# Altium schematic symbol library WiirdFlex.SchLib: 25 symbols
Pins are listed as number, name and electrical type; pins without a type are passive.

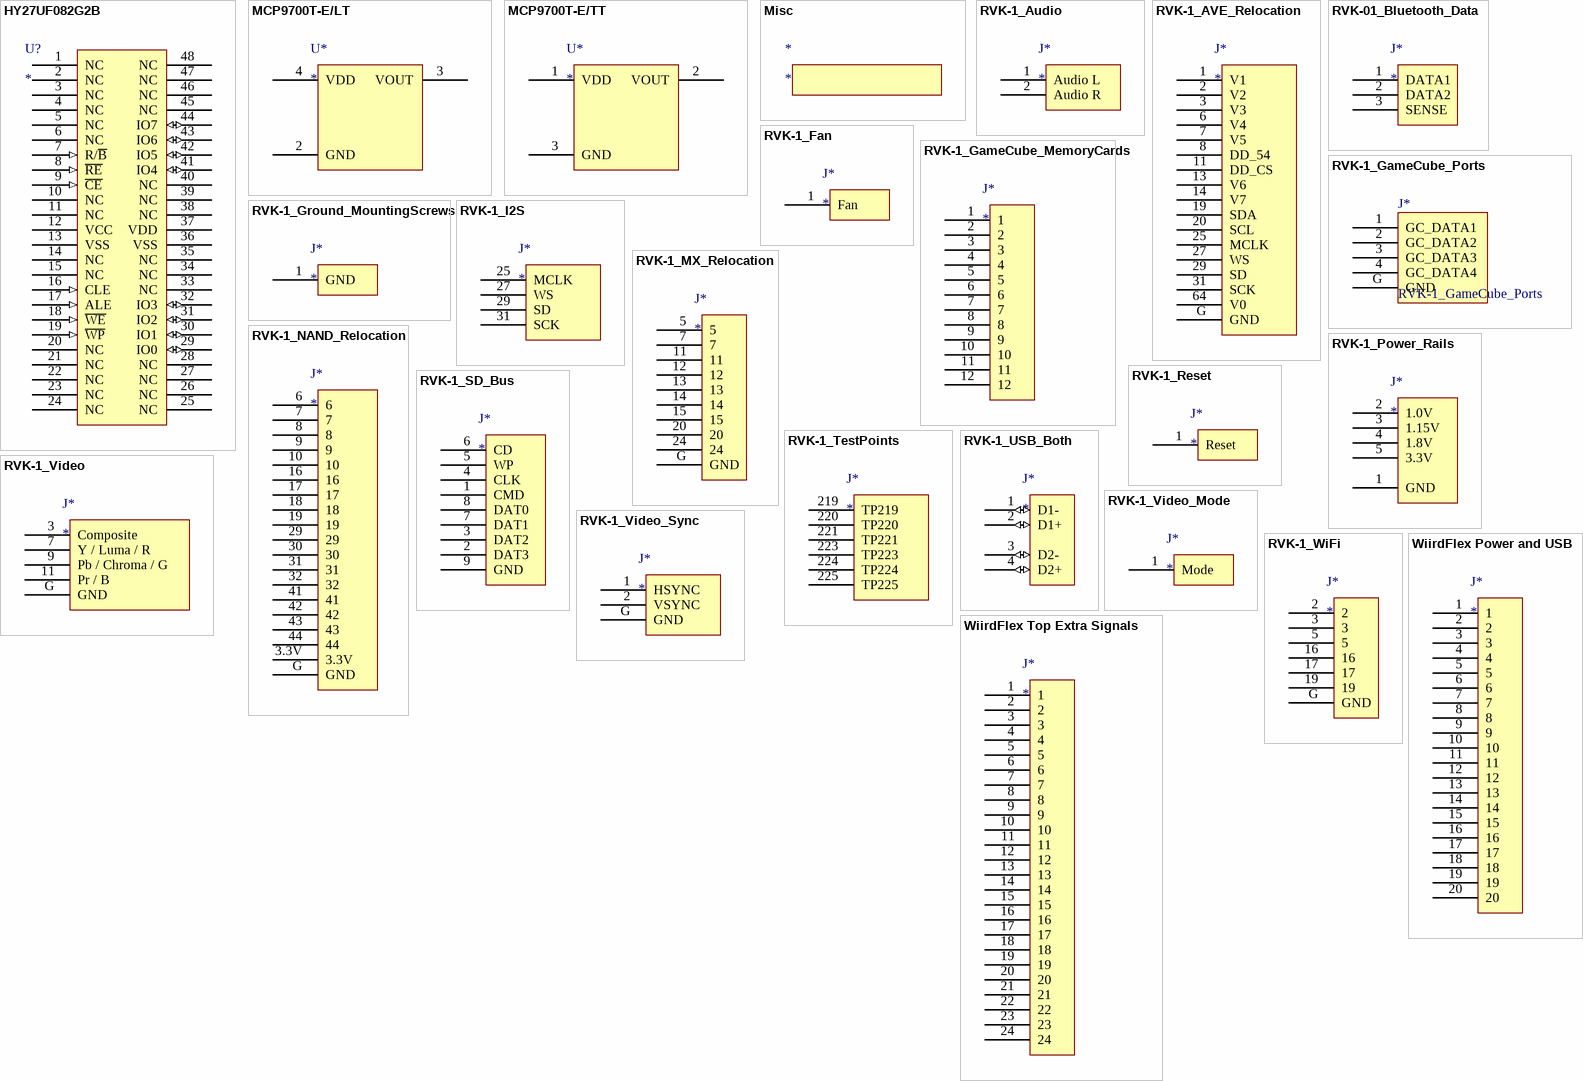
[diagram p0: symbols HY27UF082G2B to WiirdFlex Top Extra Signals]

## HY27UF082G2B
designator U?
NAND flash chip used on WII
footprint TSSOP50P2000X120-48N (TSSOP, 48-Leads, Body 12.02x18.40mm, Pitch 0.50mm, IPC Medium Density)
pins: 1 NC, 2 NC, 3 NC, 4 NC, 5 NC, 6 NC, 7 R/~{B} (in), 8 ~{RE} (in), 9 ~{CE} (in), 10 NC, 11 NC, 12 VCC (power), 13 VSS (power), 14 NC, 15 NC, 16 CLE (in), 17 ALE (in), 18 ~{WE} (in), 19 ~{WP} (in), 20 NC, 21 NC, 22 NC, 23 NC, 24 NC, 25 NC, 26 NC, 27 NC, 28 NC, 29 IO0 (io), 30 IO1 (io), 31 IO2 (io), 32 IO3 (io), 33 NC, 34 NC, 35 NC, 36 VSS (power), 37 VDD (power), 38 NC, 39 NC, 40 NC, 41 IO4 (io), 42 IO5 (io), 43 IO6 (io), 44 IO7 (io), 45 NC, 46 NC, 47 NC, 48 NC

## MCP9700T-E/LT
designator U*
Low-Power Linear Active Thermistor IC, SC70-5 package
footprint SOT65P210X110-6N (SOT23, 6-Leads, Body 2.03x2.10mm, Pitch 0.65mm, IPC Medium Density)
pins: 2 GND, 3 VOUT, 4 VDD

## MCP9700T-E/TT
designator U*
Low-Power Linear Active Thermistor IC, SOT-23-3 package
footprint SOT95P237X112-3N (SOT23, 3-Leads, Body 2.86x2.37mm, Pitch 0.95mm, IPC Medium Density)
pins: 1 VDD, 2 VOUT, 3 GND

## Misc
designator *
placeholder for footprints without pads - keepouts, trim outlines, etc; ClassName: Keepout

## RVK-1_Audio
designator J*
footprint RVK-1_AVE_Audio_Out
footprint RVK-1_Audio_Preamp_Pads
pins: 1 Audio L, 2 Audio R

## RVK-1_AVE_Relocation
designator J*
footprint RVK-1_AVE_Vias
footprint RVK-1_AVE_Vias - alignment
pins: 1 V1, 2 V2, 3 V3, 6 V4, 7 V5, 8 DD_54, 11 DD_CS, 13 V6, 14 V7, 19 SDA, 20 SCL, 25 MCLK, 27 WS, 29 SD, 31 SCK, 64 V0, G GND

## RVK-01_Bluetooth_Data
designator J*
footprint RVK-1_BT_Data
pins: 1 DATA1, 2 DATA2, 3 SENSE

## RVK-1_Fan
designator J*
footprint RVK-1_Fan_PWM (Via controlling fan from GPU.  Don't know if it's actually PWM or not, just guessing.)
pins: 1 Fan

## RVK-1_GameCube_MemoryCards
designator J*
footprint RVK-1_MemCard_TestPoints (Don't need these signals but they may be useful for mechanical attachment points)
pins: 1, 2, 3, 4, 5, 6, 7, 8, 9, 10, 11, 12

## RVK-1_GameCube_Ports
designator J*
footprint RVK-1_GC_Controller_RPads (Footprint for direct attachment to Game Cube controller signals on bottom side, via pull up resistor array pads)
footprint RVK-1_GC_Controller_Vias
footprint RVK-1_GC_Controller_RPads - alignment
footprint RVK-1_GC_Controller_Vias - alignment
pins: 1 GC_DATA1, 2 GC_DATA2, 3 GC_DATA3, 4 GC_DATA4, G GND

## RVK-1_Ground_MountingScrews
designator J*
footprint RVK-1_GND_Screws
pins: 1 GND

## RVK-1_I2S
designator J*
footprint RVK-1_AVE_I2S
pins: 25 MCLK, 27 WS, 29 SD, 31 SCK

## RVK-1_MX_Relocation
designator J*
footprint RVK-1_MX (Vias where the MX chip attaches to CPU and/or GPU on the bottom of a 4-layer Wii motherboard)
footprint RVK-1_MX - alignment (Vias where the MX chip attaches to CPU and/or GPU on the bottom of a 4-layer Wii motherboard)
pins: 5, 7, 11, 12, 13, 14, 15, 20, 24, G GND

## RVK-1_NAND_Relocation
designator J*
footprint RVK-1_NAND_Vias
footprint RVK-1_NAND_Vias - alignment
pins: 3.3V, 6, 7, 8, 9, 10, 16, 17, 18, 19, 29, 30, 31, 32, 41, 42, 43, 44, G GND

## RVK-1_Power_Rails
designator J*
Connection points for Wii power rails
footprint RVK-1_Power_Rails_Top_Direct (Direct solder-to-board attachment options for Wii power rails.  Includes pads to attach to the Wii in place of existing bulk capacitors (those capacitors would then be relocated to the interface board)
pins: 1 GND, 2 1.0V, 3 1.15V, 4 1.8V, 5 3.3V

## RVK-1_Reset
designator J*
footprint RVK-1_Reset
pins: 1 Reset

## RVK-1_SD_Bus
designator J*
footprint RVK-1_SD_RPADS (Direct pad-to-pad interface to SD lines by replacing terminating resistors)
pins: 1 CMD, 2 DAT3, 3 DAT2, 4 CLK, 5 WP, 6 CD, 7 DAT1, 8 DAT0, 9 GND

## RVK-1_TestPoints
designator J*
footprint RVK-1_TestPoint_Vias (Vias near GPU associated with some test points on top layer)
pins: 219 TP219, 220 TP220, 221 TP221, 223 TP223, 224 TP224, 225 TP225

## RVK-1_USB_Both
designator J*
footprint RVK-1_USB_Top (USB vias, the easiest way to access USB from the top side.  This is upstream of ESD protection.)
pins: 1 D1- (io), 2 D1+ (io), 3 D2- (io), 4 D2+ (io)

## RVK-1_Video
designator J*
footprint RVK-1_Video_CPads
footprint RVK-1_Video_Vias
footprint RVK-1_Video_Vias - alignment
pins: 3 Composite, 7 Y / Luma / R, 9 Pb / Chroma / G, 11 Pr / B, G GND

## RVK-1_Video_Mode
designator J*
footprint RVK-1_Video_Mode_via
pins: 1 Mode

## RVK-1_Video_Sync
designator J*
footprint RVK-1_Video_Sync
footprint RVK-1_Video_Sync - alignment
pins: 1 HSYNC, 2 VSYNC, G GND

## RVK-1_WiFi
designator J*
footprint RVK-1_WiFi_Vias
footprint RVK-1_WiFi_RPads
footprint RVK-1_WiFi_RPads - Alignment
footprint RVK-1_WiFi_Vias - Alignment
pins: 2, 3, 5, 16, 17, 19, G GND

## WiirdFlex Power and USB
designator J*
FPC tab connector for power, main USB, and thermistor/temp sensor
pins: 1, 2, 3, 4, 5, 6, 7, 8, 9, 10, 11, 12, 13, 14, 15, 16, 17, 18, 19, 20

## WiirdFlex Top Extra Signals
designator J*
FPC tab connector for extra signals: USB, BT, SD
footprint FH12A-24S-0.5SH(55) FPC TAB
pins: 1, 2, 3, 4, 5, 6, 7, 8, 9, 10, 11, 12, 13, 14, 15, 16, 17, 18, 19, 20, 21, 22, 23, 24